# EAGLE library part VH6S (library connector2)
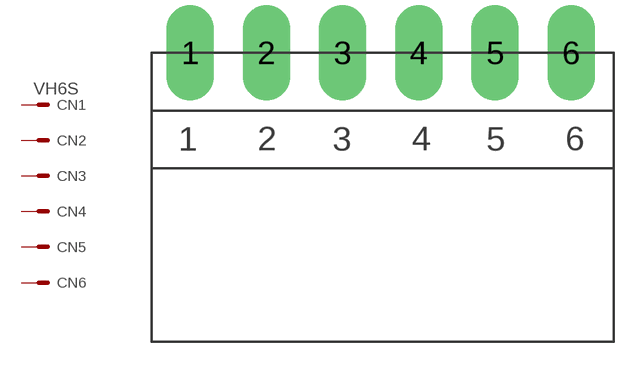
[diagram p2: symbol with the pads of VH6S; footprint VH6S]

Designator prefix CN; gates 1=MV 2=M 3=M 4=M 5=M 6=M

## VH6S  [VH6S]
1  1:S  pas
2  2:S  pas
3  3:S  pas
4  4:S  pas
5  5:S  pas
6  6:S  pas

## Footprint VH6S (pad centres in mm)
drill 1.65 long: 1 0,0; 2 3.96,0; 3 7.92,0; 4 11.88,0; 5 15.84,0; 6 19.8,0